# EAGLE library part AD22100 (library TEABOX-LIB)
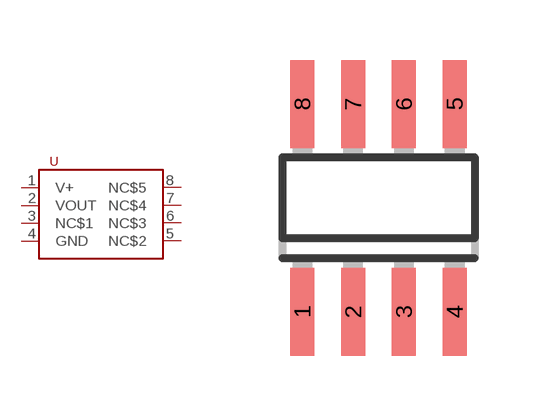
[diagram p23: symbol with the pads of SOIC8; footprint SOIC8]

Designator prefix U

## AD22100  [SOIC8]
1  V+  pwr
2  VOUT  out
3  NC$1  nc
4  GND  sup
5  NC$2  nc
6  NC$3  nc
7  NC$4  nc
8  NC$5  nc

## Footprint SOIC8 (pad centres in mm)
Small Outline IC
smd 0.6 x 2.2: 1 -1.905,-2.6; 2 -0.635,-2.6; 3 0.635,-2.6; 4 1.905,-2.6; 5 1.905,2.6; 6 0.635,2.6; 7 -0.635,2.6; 8 -1.905,2.6